# Altium footprint library Модуль трансформаторный.PcbLib: 1 footprints
Each footprint in its own frame and in the unit in brackets; x right, y up, seen from the top. Pads: shape width x height; smd on the part's side, far side on the other; paste and mask are expansions set on the pad; w line width, h text height; cw(c..) or ccw(c..) is an arc to the next point about the centre after c.
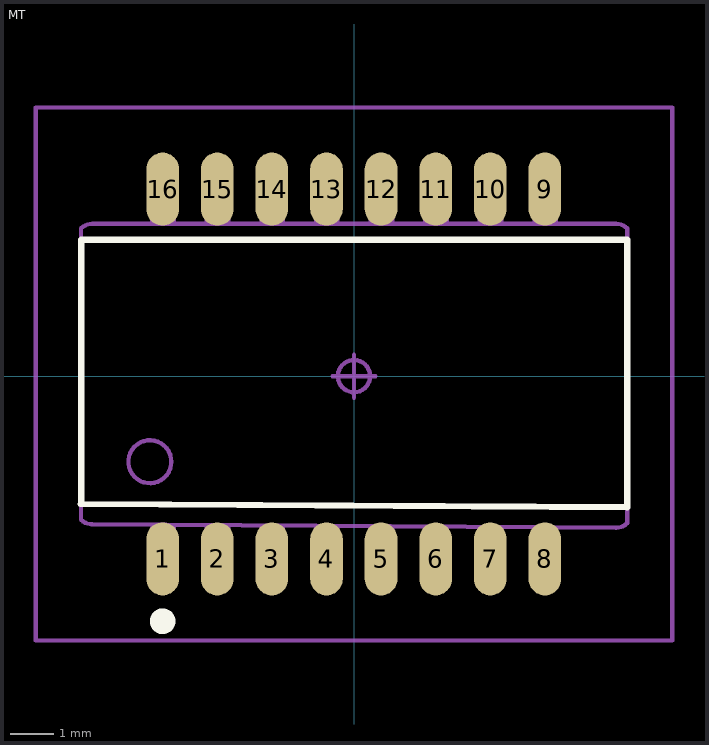
[diagram p0: the footprint, top view; thin cyan lines are the x and y axes]

## МТ [mm]
height 6.3
pads (16):
  oval 0.76x1.7 smd: 1(-4.45,-4.25) 2(-3.18,-4.25) 3(-1.91,-4.25) 4(-0.64,-4.25) 5(0.63,-4.25) 6(1.9,-4.25) 7(3.17,-4.25) 8(4.44,-4.25) 9(4.44,4.35) 10(3.17,4.35) 11(1.9,4.35) 12(0.63,4.35) 13(-0.64,4.35) 14(-1.91,4.35) 15(-3.18,4.35) 16(-4.45,4.35)
Top Overlay:
  circle w0.3: c-4.45,-5.7 r0.15
  lines w0.15: -6.35,-2.973 6.353,-3.05 6.353,3.175 -6.347,3.175 -6.347,-2.973
Top Assembly:
  circle w0.1: c-4.747,-1.99 r0.5
  lines w0.1: -6.347,-3.341 ccw(c-6.09,-3.073) -6.092,-3.445 ; -6.347,-3.34 -6.347,3.439 ; -6.345,3.439 cw(c-6.088,3.171) -6.09,3.542 6.095,3.542 cw(c6.093,3.171) 6.35,3.439 ; -6.105,-3.445 6.095,-3.527 ccw(c6.093,-3.155) 6.35,-3.423 ; -4.692,-3.525 -4.692,-4.815 -4.192,-4.815 -4.192,-3.525 ; -4.692,3.55 -4.692,4.835 -4.192,4.835 -4.192,3.55 ; -3.422,-3.525 -3.422,-4.815 -2.922,-4.815 -2.922,-3.525 ; -3.422,3.55 -3.422,4.835 -2.922,4.835 -2.922,3.55 ; -2.152,-3.525 -2.152,-4.815 -1.652,-4.815 -1.652,-3.525 ; -2.152,3.55 -2.152,4.835 -1.652,4.835 -1.652,3.55 ; -0.882,-3.525 -0.882,-4.815 -0.382,-4.815 -0.382,-3.525 ; -0.882,3.55 -0.882,4.835 -0.382,4.835 -0.382,3.55 ; 0.388,-3.525 0.388,-4.815 0.888,-4.815 0.888,-3.525 ; 0.388,3.55 0.388,4.835 0.888,4.835 0.888,3.55 ; 1.658,-3.525 1.658,-4.815 2.158,-4.815 2.158,-3.525 ; 1.658,3.55 1.658,4.835 2.158,4.835 2.158,3.55 ; 2.928,-3.525 2.928,-4.815 3.428,-4.815 3.428,-3.525 ; 2.928,3.55 2.928,4.835 3.428,4.835 3.428,3.55 ; 4.198,-3.525 4.198,-4.815 4.698,-4.815 4.698,-3.525 ; 4.198,3.55 4.198,4.835 4.698,4.835 4.698,3.55 ; 6.353,-3.423 6.353,3.439
Top Courtyard (Mech15):
  circle w0.1: c0,0 r0.375
  lines w0.1: -0.5,0 0.5,0 ; 0,-0.5 0,0.5 ; -7.4,-6.15 -7.4,6.25 7.4,6.25 7.4,-6.15 -7.4,-6.15
3D body "МТС1.stp": height 6.01, standoff 0, extent -6.35,-4.825 6.35,4.825